# Altium footprint library InvertotPCBLib.PcbLib: 27 footprints (part 2 of 2)
Each footprint in its own frame and in the unit in brackets; x right, y up, seen from the top. Pads: shape width x height; smd on the part's side, far side on the other; paste and mask are expansions set on the pad; w line width, h text height; cw(c..) or ccw(c..) is an arc to the next point about the centre after c.
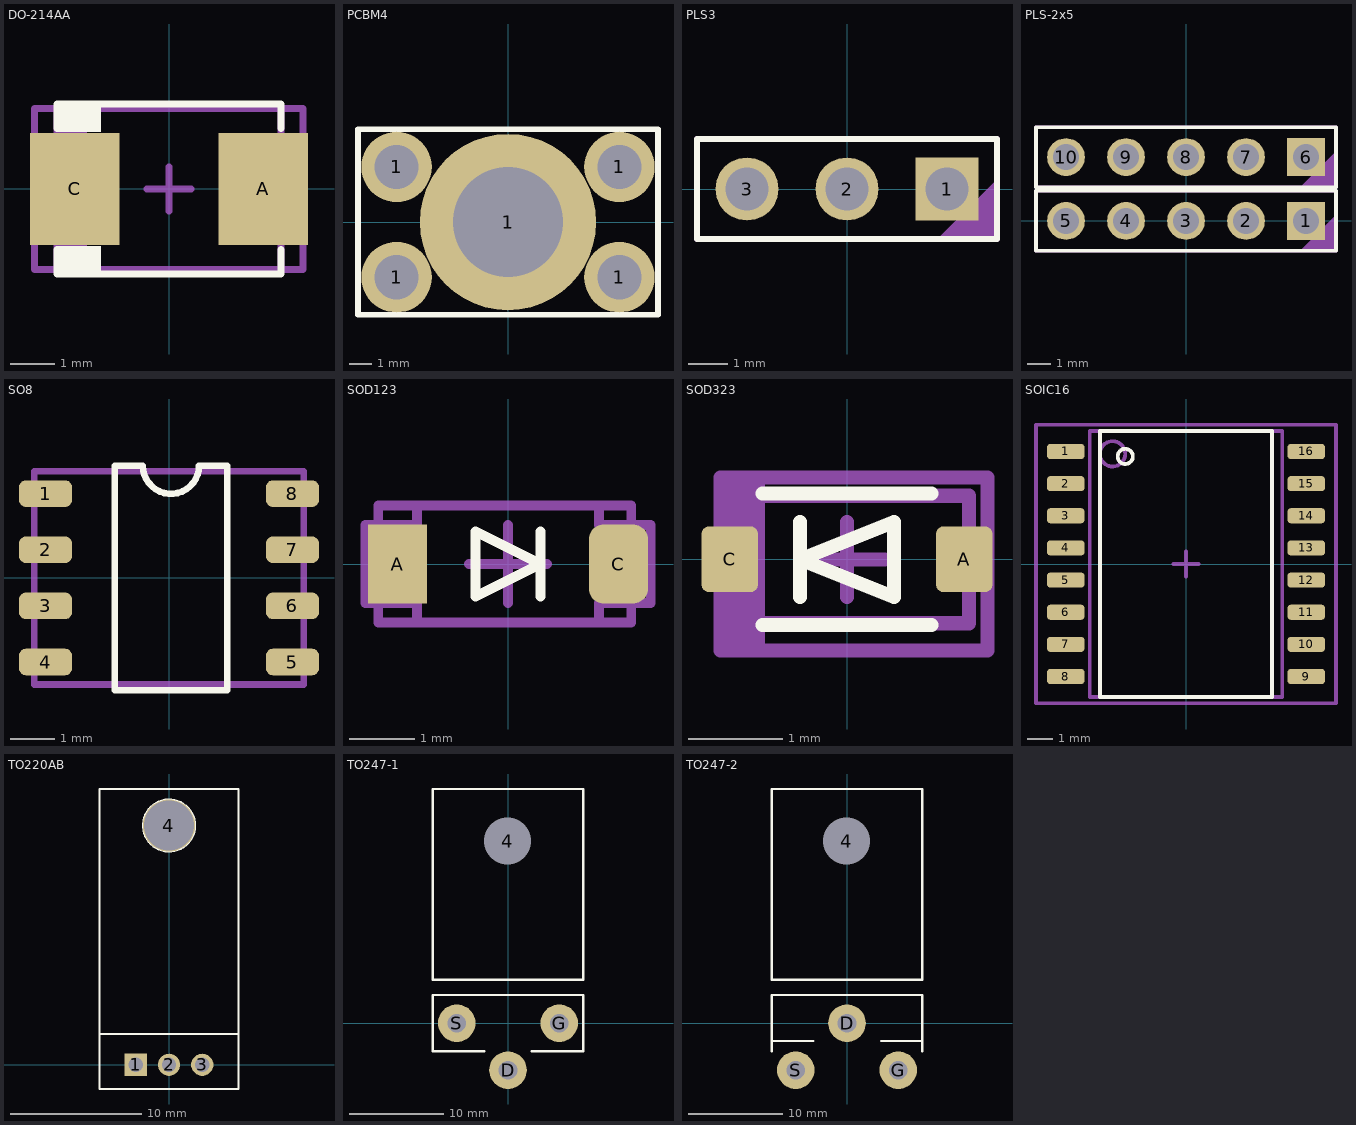
[diagram p1: the footprints below, top view; thin cyan lines are the x and y axes]

## DO-214AA [mm]
pads (2):
  rect 2x2.5 smd: A(2.1,0) C(-2.1,0)
Top Overlay:
  rectangle: -2.5,-1.9 -1.524,-1.27
  rectangle: -2.5,1.27 -1.524,1.9
  lines w0.15: -2.5,-1.35 -2.5,-1.9 2.5,-1.9 2.5,-1.35 ; -2.5,1.35 -2.5,1.9 2.5,1.9 2.5,1.35
  text "." at -3.1,1.55 h0.1
Top Courtyard:
  lines w0.15: -0.5,0 0.5,0 ; 0,-0.5 0,0.5 ; -3.004,-1.8 2.991,-1.8 2.991,1.8 -3.004,1.8 -3.004,-1.8
Mechanical 13:
  rectangle: -2.5,-1.85 -1.827,1.85
  lines w0.15: -2.5,-1.85 2.5,-1.85 2.5,1.85 -2.5,1.85 -2.5,-1.85
3D body "DO-214AA.step": height 2.3, standoff 0, extent -2.97,-1.8 2.97,1.8

## PCBM4 [mm]
pads (5):
  round 3.2 hole 2: 1(-5.05,-2.5) 1(-5.05,2.5) 1(5.05,-2.5) 1(5.05,2.5)
  round 8 hole 5: 1(0,0)
Top Layer:
  region: -5.3,7.2
  region: -5.3,7.2
Top Overlay:
  lines w0.254: -6.8,-4.2 -6.8,4.2 5.1,4.2 6.8,4.2 6.8,-4.2 -6.8,-4.2

## PLS3 [mm]
pads (3):
  rect 1.6x1.6 hole 1.1: 1(2.54,0)
  round 1.6 hole 1.1: 2(0,0) 3(-2.54,0)
Top Overlay:
  lines w0.15: -3.81,-1.27 3.81,-1.27 3.81,1.27 -3.81,1.27 -3.81,-1.27
Mechanical 29:
  region: 3.81,-1.27 2.286,-1.27 3.81,0.254
  lines w0.15: -3.81,-1.27 -3.81,1.27 3.81,1.27 3.81,-1.27 -3.81,-1.27
3D body "PLS-1.STEP": height 8.5, standoff -3, extent -3.81,-1.27 -1.27,1.27
3D body "PLS-1.STEP": height 8.5, standoff -3, extent -1.27,-1.27 1.27,1.27
3D body "PLS-1.STEP": height 8.5, standoff -3, extent 1.27,-1.27 3.81,1.27

## PLS-2x5 [mm]
pads (10):
  rect 1.6x1.6 hole 1.1: 1(5.08,0) 6(5.08,2.7)
  round 1.6 hole 1.1: 2(2.54,0) 3(0,0) 4(-2.54,0) 5(-5.08,0) 7(2.54,2.7) 8(0,2.7) 9(-2.54,2.7) 10(-5.08,2.7)
Top Overlay:
  lines w0.15: -6.35,-1.27 -6.35,1.27 6.35,1.27 6.35,-1.27 -6.35,-1.27 ; -6.35,1.43 -6.35,3.97 6.35,3.97 6.35,1.43 -6.35,1.43
Mechanical 29:
  region: 6.35,1.43 4.826,1.43 6.35,2.954
  region: 6.35,-1.27 4.826,-1.27 6.35,0.254
  lines w0.15: -6.35,-1.27 6.35,-1.27 6.35,1.27 -6.35,1.27 -6.35,-1.27 ; -6.35,1.43 6.35,1.43 6.35,3.97 -6.35,3.97 -6.35,1.43
3D body "PLS-1.STEP": height 8.5, standoff -3, extent 3.81,1.43 6.35,3.97
3D body "PLS-1.STEP": height 8.5, standoff -3, extent 1.27,1.43 3.81,3.97
3D body "PLS-1.STEP": height 8.5, standoff -3, extent -1.27,1.43 1.27,3.97
3D body "PLS-1.STEP": height 8.5, standoff -3, extent -3.81,1.43 -1.27,3.97
3D body "PLS-1.STEP": height 8.5, standoff -3, extent -6.35,1.43 -3.81,3.97
3D body "PLS-1.STEP": height 8.5, standoff -3, extent 3.81,-1.27 6.35,1.27
3D body "PLS-1.STEP": height 8.5, standoff -3, extent 1.27,-1.27 3.81,1.27
3D body "PLS-1.STEP": height 8.5, standoff -3, extent -1.27,-1.27 1.27,1.27
3D body "PLS-1.STEP": height 8.5, standoff -3, extent -3.81,-1.27 -1.27,1.27
3D body "PLS-1.STEP": height 8.5, standoff -3, extent -6.35,-1.27 -3.81,1.27

## SO8 [mm]
pads (8):
  rrect50% 1.2x0.6 smd: 1(-2.794,1.905) 2(-2.794,0.635) 3(-2.794,-0.635) 4(-2.794,-1.905) 5(2.794,-1.905) 6(2.794,-0.635) 7(2.794,0.635) 8(2.794,1.905)
Top Overlay:
  lines w0.15: -1.226,-2.545 1.314,-2.545 1.314,2.535 0.679,2.535 cw(c0.044,2.535) -0.591,2.535 -1.226,2.535 -1.226,-2.545
  text "." at -2.7,2.8 h0.1
Top Courtyard:
  lines w0.15: -3.048,-2.413 3.048,-2.413 3.048,2.413 -3.048,2.413 -3.048,-2.413
3D body "User Library-so8-4.STEP": height 1.76, standoff 0, extent -3.068,-2.445 3.068,2.445

## SOD123 [mm]
pads (2):
  rect 0.91x1.22 smd: A(-1.7,0)
  rrect50% 0.91x1.22 smd: C(1.7,0)
Top Overlay:
  lines w0.15: 0.5,-0.5 0.5,0.5 ; -0.5,-0.5 0.5,0 -0.5,0.5 -0.5,-0.5
  text "." at 2.6,0.9 h0.1
Top Courtyard:
  lines w0.15: -0.6,0 0.6,0 ; 0,-0.6 0,0.6 ; -2,-0.9 1.9,-0.9 1.9,0.9 -2,0.9 -2,-0.9
Top 3D Body:
  lines w0.15: -2.2,-0.6 -2.2,0.6 -1.4,0.6 -1.4,0.9 0,0.9 1.4,0.9 1.4,0.6 2.2,0.6 2.2,-0.6 1.4,-0.6 1.4,-0.9 0,-0.9 -1.4,-0.9 -1.4,-0.6 -2.2,-0.6
3D body "sod_123.stp": height 1.22, standoff -0.03, extent -1.929,-0.9 1.929,0.9

## SOD323 [mm]
pads (2):
  rrect25% 0.6x0.7 smd: A(1.25,0) C(-1.25,0)
Top Overlay:
  lines w0.15: -0.9,-0.7 0.9,-0.7 ; -0.9,0.7 0.9,0.7 ; -0.5,-0.4 -0.5,0.4 ; -0.5,0 0.5,0.4 0.5,-0.4 -0.5,0
  text "." at -1.4,0.75 h0.1
Top Courtyard:
  lines w0.15: -0.4,0 0.4,0 ; 0,-0.4 0,0.4 ; -1.3,-0.682 -1.3,0.678 1.3,0.678 1.3,-0.682 -1.3,-0.682
Mechanical 29:
  rectangle: -1.35,-0.975 -0.875,0.875
  lines w0.15: -1.35,-0.975 -1.35,0.875 1.5,0.875 1.5,-0.975 -1.35,-0.975
3D body "SOD323.STEP": height 1.1, standoff 0, extent -1.3,-0.675 1.3,0.675

## SOIC16 [mm]
pads (16):
  rrect50% 1.5x0.6 smd: 1(-4.75,4.445) 2(-4.75,3.175) 3(-4.75,1.905) 4(-4.75,0.635) 5(-4.75,-0.635) 6(-4.75,-1.905) 7(-4.75,-3.175) 8(-4.75,-4.445) 9(4.75,-4.445) 10(4.75,-3.175) 11(4.75,-1.905) 12(4.75,-0.635) 13(4.75,0.635) 14(4.75,1.905) 15(4.75,3.175) 16(4.75,4.445)
Top Overlay:
  circle w0.15: c-2.4,4.25 r0.3
  lines w0.15: -3.4,-5.25 3.4,-5.25 3.4,5.25 -3.4,5.25 -3.4,-5.25
  text "." at -5.5,5.4 h0.1
Top Courtyard:
  lines w0.15: -0.5,0 0.5,0 ; 0,-0.5 0,0.5 ; -5.925,-5.5 5.925,-5.5 5.925,5.5 -5.925,5.5 -5.925,-5.5
Mechanical 13:
  circle w0.15: c-2.9,4.35 r0.5
  lines w0.15: -3.8,-5.25 3.8,-5.25 3.8,5.25 -3.8,5.25 -3.8,-5.25
3D body "SOIC16W.step": height 2.65, standoff 0, extent -5.162,-5.25 5.162,5.25

## TO220AB [mm]
pads (4):
  rect 1.7x1.7 hole 1.1: 1(-2.54,0)
  round 1.7 hole 1.1: 2(0,0) 3(2.54,0)
  round 4 hole 3.8 unplated: 4(0,18.288)
Top Overlay:
  circle w0.15: c0,18.288 r2
  lines w0.15: -5.3,2.35 5.3,2.35 ; -5.3,-1.85 5.3,-1.85 5.3,21.082 -5.3,21.082 -5.3,-1.85
3D body "TO220.STEP": height 4.5, standoff -3.5, extent -5.2,-0.254 5.2,20.846

## TO247-1 [mm]
pads (4):
  round 4 hole 5 unplated: 4(-0.05,19.35)
  round 4 hole 2: D(0,-5) G(5.45,0) S(-5.45,0)
Top Overlay:
  lines w0.254: -2.5,-3 -8,-3 -8,3 8,3 8,-3 2.5,-3 ; -8,4.6 -8,24.9 8,24.9 8,4.6 -8,4.6
3D body "TO-247AC.STEP": height 26.15, standoff -3.84, extent -7.5,-5.2 7.5,3

## TO247-2 [mm]
pads (4):
  round 4 hole 5 unplated: 4(-0.05,19.35)
  round 4 hole 2: D(0,0) G(5.45,-5) S(-5.45,-5)
Top Overlay:
  lines w0.254: -8,-3 -8,3 8,3 8,-3 ; -8,-1.9 -3.6,-1.9 ; 3.639,-1.9 8,-1.9 ; -8,4.6 -8,24.9 8,24.9 8,4.6 -8,4.6
3D body "TO-247AC-1.STEP": height 26.15, standoff -3.84, extent -7.5,-5.2 7.5,3